# EAGLE library part TLE2072 (library EAG)
OP AMP TLE2072 SMD JFET Quad Opamp
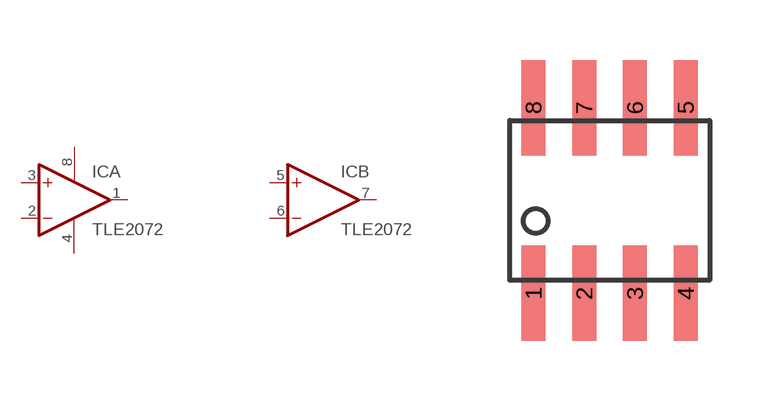
[diagram p1: symbol with the pads of 8-SOIC; footprint 8-SOIC]

Designator prefix IC; gates A=OPAMP B=OPAMP P=PWR+-

## TLE2072  [8-SOIC]
1  A:OUT  out
2  A:-IN  in
3  A:+IN  in
4  P:V-  pwr
5  B:+IN  in
6  B:-IN  in
7  B:OUT  out
8  P:V+  pwr

## Footprint 8-SOIC (pad centres in mm)
smd 0.6 x 2.388: 1 -1.905,-2.324; 2 -0.635,-2.324; 3 0.635,-2.324; 4 1.905,-2.324; 5 1.905,2.324; 6 0.635,2.324; 7 -0.635,2.324; 8 -1.905,2.324